# Altium footprint library S8B-PH-SM4-TB.PcbLib: 1 footprints
Each footprint in its own frame and in the unit in brackets; x right, y up, seen from the top. Pads: shape width x height; smd on the part's side, far side on the other; paste and mask are expansions set on the pad; w line width, h text height; cw(c..) or ccw(c..) is an arc to the next point about the centre after c.
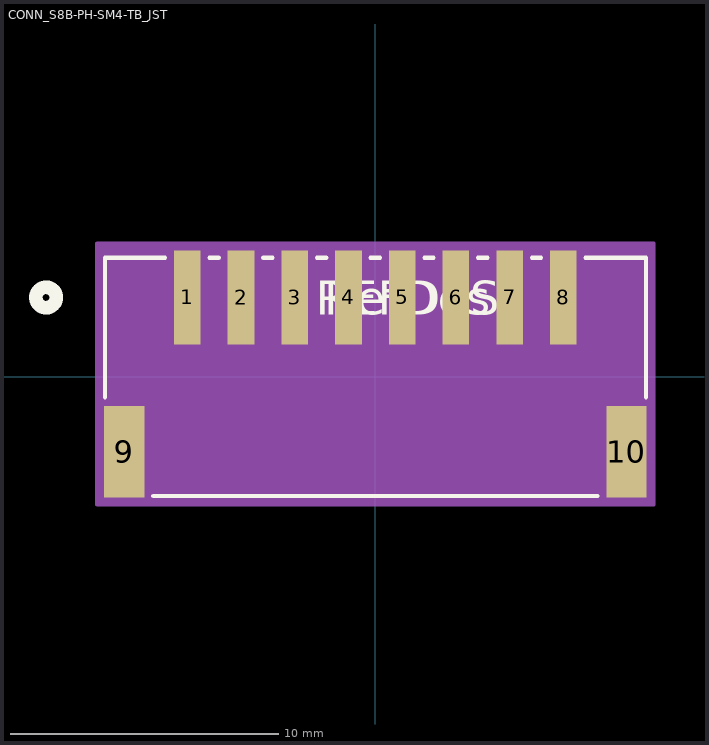
[diagram p0: the footprint, top view; thin cyan lines are the x and y axes]

## CONN_S8B-PH-SM4-TB_JST [mil]
pads (10):
  rect 39x138 smd paste+0 mask+0: 1(-275.59,116.35) 2(-196.85,116.35) 3(-118.11,116.35) 4(-39.37,116.35) 5(39.37,116.35) 6(118.11,116.35) 7(196.85,116.35) 8(275.59,116.35)
  rect 59x134 smd paste+0 mask+0: 9(-368.11,-110.03) 10(368.11,-110.03)
Top Overlay:
  circle w20: c-482.61,116.35 r15
  lines w6: -396.5,-29.93 -396.5,174.5 -308.19,174.5 ; -325.51,-174.5 325.51,-174.5 ; -242.99,174.5 -229.45,174.5 ; -164.25,174.5 -150.71,174.5 ; -85.51,174.5 -71.97,174.5 ; -6.77,174.5 6.77,174.5 ; 71.97,174.5 85.51,174.5 ; 150.71,174.5 164.25,174.5 ; 229.45,174.5 242.99,174.5 ; 308.19,174.5 396.5,174.5 396.5,-29.93
  text "REFDES" at -87.5,91.35 h50
  text "RefDes" at -75,91.35 h50
Bottom Overlay:
  circle w20: c-482.61,116.35 r15
Mechanical 13:
  circle w20: c-275.59,116.35 r15
  lines w1: -391.5,-169.5 -391.5,169.5 391.5,169.5 391.5,-169.5 -391.5,-169.5
  text "RefDes2" at -87.5,91.35 h50
Mechanical 15:
  region: 407.61,195.35 -407.61,195.35 -407.61,-187.03 407.61,-187.03
  lines w6: -407.61,-187.03 407.61,-187.03 407.61,195.35 -407.61,195.35 -407.61,-187.03
3D body "S8B-PH-SM4-TB.STEP": height 216.54, standoff -3.94, extent -391.73,-169.29 391.73,169.29